# EAGLE library part AD8021 (library ccd)
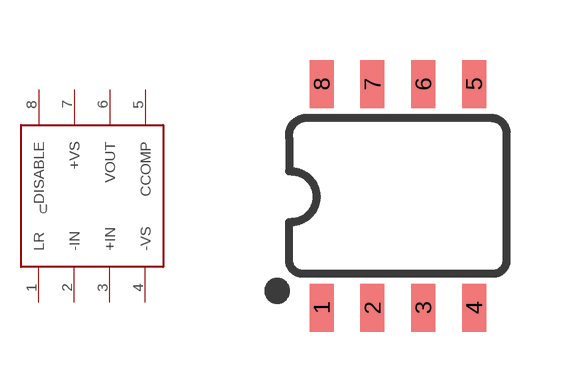
[diagram p2: symbol with the pads of SO08; footprint SO08]

Designator prefix -

## AD8021  [SO08]
1  LR
2  -IN
3  +IN
4  -VS
5  CCOMP
6  VOUT
7  +VS
8  DISABLE

## Footprint SO08 (pad centres in mm)
SOIC, 0.15 inch width
smd 0.6 x 1.2: 1 -1.905,-2.8; 2 -0.635,-2.8; 3 0.635,-2.8; 4 1.905,-2.8; 5 1.905,2.8; 6 0.635,2.8; 7 -0.635,2.8; 8 -1.905,2.8